# EAGLE library part PIN_11 (library dooba)
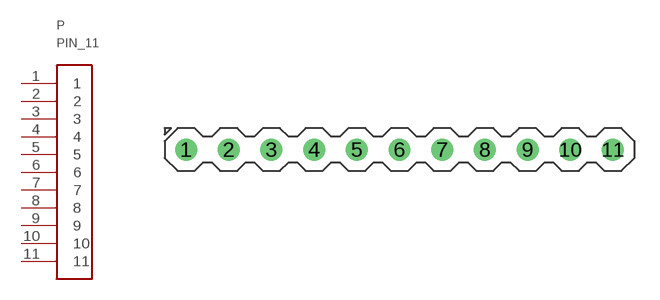
[diagram p11: symbol with the pads of PIN_11; footprint PIN_11]

Designator prefix P

## PIN_11  [PIN_11]
1  1
2  2
3  3
4  4
5  5
6  6
7  7
8  8
9  9
10  10
11  11

## Footprint PIN_11 (pad centres in mm)
drill 0.8: 1 -12.7,0; 2 -10.16,0; 3 -7.62,0; 4 -5.08,0; 5 -2.54,0; 6 0,0; 7 2.54,0; 8 5.08,0; 9 7.62,0; 10 10.16,0; 11 12.7,0